# Altium schematic symbol library inductors.SCHLIB: 80 symbols
Pins are listed as number, name and electrical type; pins without a type are passive.

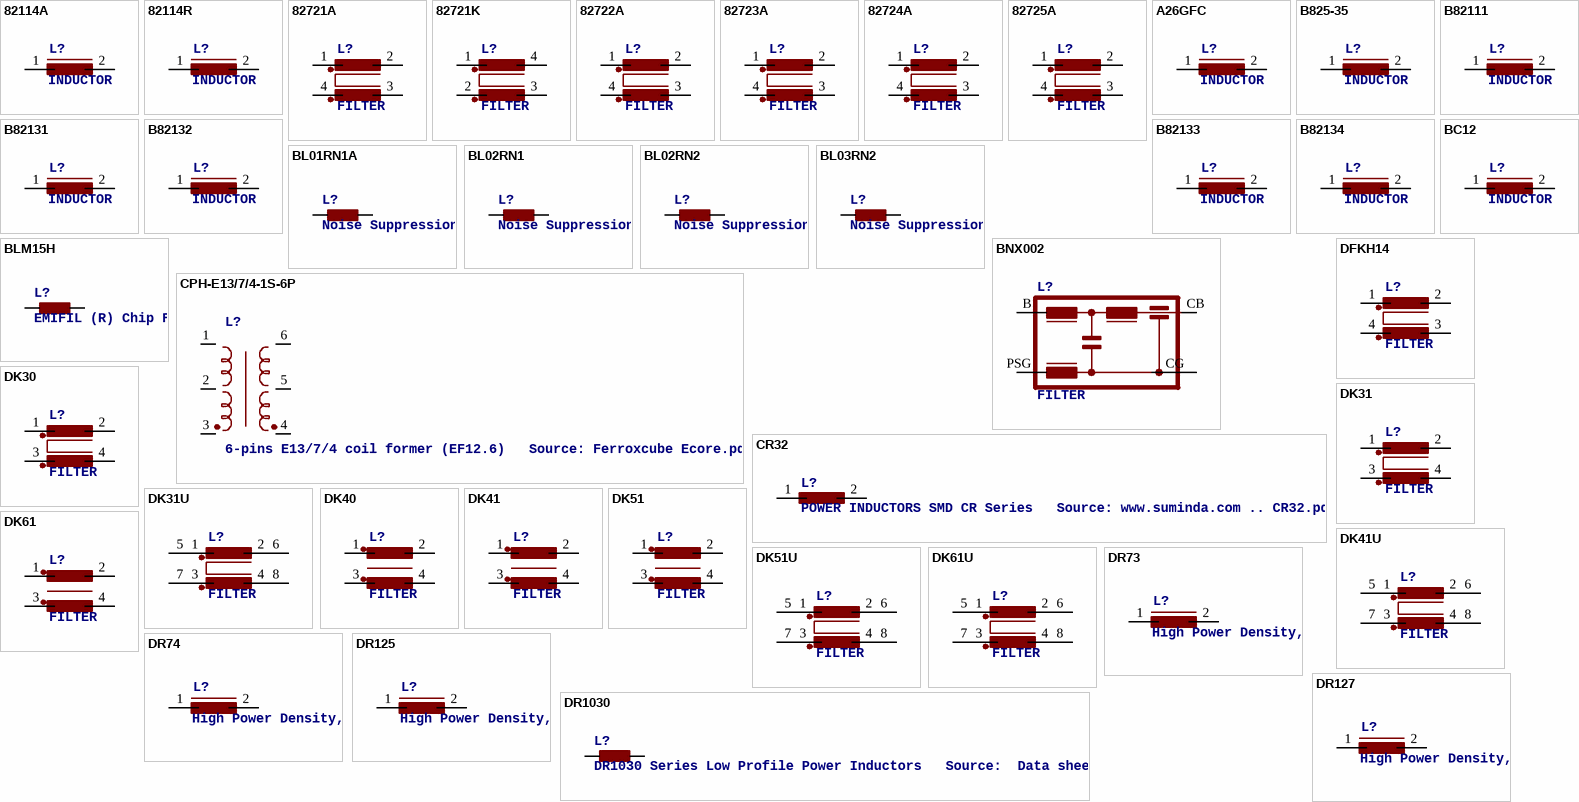
[diagram p0: symbols 82114A to DR1030]

## 82114A
designator L?, comment INDUCTOR
footprint 82114A
pins: 1, 2

## 82114R
designator L?, comment INDUCTOR
footprint 82114R
pins: 1, 2

## 82721A
designator L?, comment FILTER
footprint 82721A
pins: 1, 2, 3 4, 4 3

## 82721K
designator L?, comment FILTER
footprint 82721K
pins: 1, 2 3, 3 4, 4 2

## 82722A
designator L?, comment FILTER
footprint 82722A
pins: 1, 2, 3 4, 4 3

## 82723A
designator L?, comment FILTER
footprint 82723A
pins: 1, 2, 3 4, 4 3

## 82724A
designator L?, comment FILTER
footprint 82724A
pins: 1, 2, 3 4, 4 3

## 82725A
designator L?, comment FILTER
footprint 82725A
pins: 1, 2, 3 4, 4 3

## A26GFC
designator L?, comment INDUCTOR
footprint A26GFC
pins: 1, 2

## B825-35
designator L?, comment INDUCTOR
footprint B825-35
pins: 1, 2

## B82111
designator L?, comment INDUCTOR
footprint SUKW1-30
pins: 1, 2

## B82131
designator L?, comment INDUCTOR
footprint SUKW1-17
pins: 1, 2

## B82132
designator L?, comment INDUCTOR
footprint SUKW2-22
pins: 1, 2

## B82133
designator L?, comment INDUCTOR
footprint SUKW3-27
pins: 1, 2

## B82134
designator L?, comment INDUCTOR
footprint SUKW4-32
pins: 1, 2

## BC12
designator L?, comment INDUCTOR
footprint BC12
pins: 1, 2

## BL01RN1A
designator L?, comment Noise Suppression Products/EMI Suppression Filters, Lead EMIFIL(R) Inductor Type   Source: http://www.murata.com .. BL01RN1_DS.pdf
footprint BL01RN1A
pins: 1, 2

## BL02RN1
designator L?, comment Noise Suppression Products/EMI Suppression Filters, Lead EMIFIL(R) Inductor Type   Source: http://www.murata.com .. BL01RN1_DS.pdf
footprint BL02RN1
pins: 1, 2

## BL02RN2
designator L?, comment Noise Suppression Products/EMI Suppression Filters, Lead EMIFIL(R) Inductor Type   Source: http://www.murata.com .. BL01RN1_DS.pdf
footprint BL02RN2
pins: 1, 2

## BL03RN2
designator L?, comment Noise Suppression Products/EMI Suppression Filters, Lead EMIFIL(R) Inductor Type   Source: http://www.murata.com .. BL01RN1_DS.pdf
footprint BL03RN2
pins: 1, 2

## BLM15H
designator L?, comment EMIFIL (R) Chip Ferrite Bead for GHz Noise   Source: http://www.murata.com/ Ferrite Bead BLM15H.pdf
footprint 0402
pins: 1, 2

## BNX002
designator L?, comment FILTER
footprint BNX002
pins: B, CB, CG, PSG

## CPH-E13/7/4-1S-6P
designator L?, comment 6-pins E13/7/4 coil former (EF12.6)   Source: Ferroxcube Ecore.pdf
footprint CPH-E13/7/4-1S-6P
pins: 1, 2, 3, 4, 5, 6

## CR32
designator L?, comment POWER INDUCTORS SMD CR Series   Source: www.suminda.com .. CR32.pdf
footprint CR32
pins: 1, 2

## DFKH14
designator L?, comment FILTER
footprint DFKH14
pins: 1, 2, 3 4, 4 3

## DK30
designator L?, comment FILTER
footprint DK30
pins: 1, 2, 3, 4

## DK31
designator L?, comment FILTER
footprint DK31
pins: 1, 2, 3, 4

## DK31U
designator L?, comment FILTER
footprint DK31
pins: 1, 2, 3, 4, 5, 6, 7, 8

## DK40
designator L?, comment FILTER
footprint DK40
pins: 1 W1A, 2 W1E, 3 W2A, 4 W2E

## DK41
designator L?, comment FILTER
footprint DK41
pins: 1 W1A, 2 W1E, 3 W2A, 4 W2E

## DK41U
designator L?, comment FILTER
footprint DK41
pins: 1, 2, 3, 4, 5, 6, 7, 8

## DK51
designator L?, comment FILTER
footprint DK51
pins: 1 W1A, 2 W1E, 3 W2A, 4 W2E

## DK51U
designator L?, comment FILTER
footprint DK51
pins: 1, 2, 3, 4, 5, 6, 7, 8

## DK61
designator L?, comment FILTER
footprint DK61
pins: 1 W1A, 2 W1E, 3 W2A, 4 W2E

## DK61U
designator L?, comment FILTER
footprint DK61
pins: 1, 2, 3, 4, 5, 6, 7, 8

## DR73
designator L?, comment High Power Density, High Efficiency, Shielded Inductors   Source: coiltronics_dr_series.pdf
footprint DR73
pins: 1, 2

## DR74
designator L?, comment High Power Density, High Efficiency, Shielded Inductors   Source: coiltronics_dr_series.pdf
footprint DR74
pins: 1, 2

## DR125
designator L?, comment High Power Density, High Efficiency, Shielded Inductors   Source: coiltronics_dr_series.pdf
footprint DR125
pins: 1, 2

## DR127
designator L?, comment High Power Density, High Efficiency, Shielded Inductors   Source: coiltronics_dr_series.pdf
footprint DR127
pins: 1, 2

## DR1030
designator L?, comment DR1030 Series Low Profile Power Inductors   Source:  Data sheet
footprint DR1030
pins: 1, 2

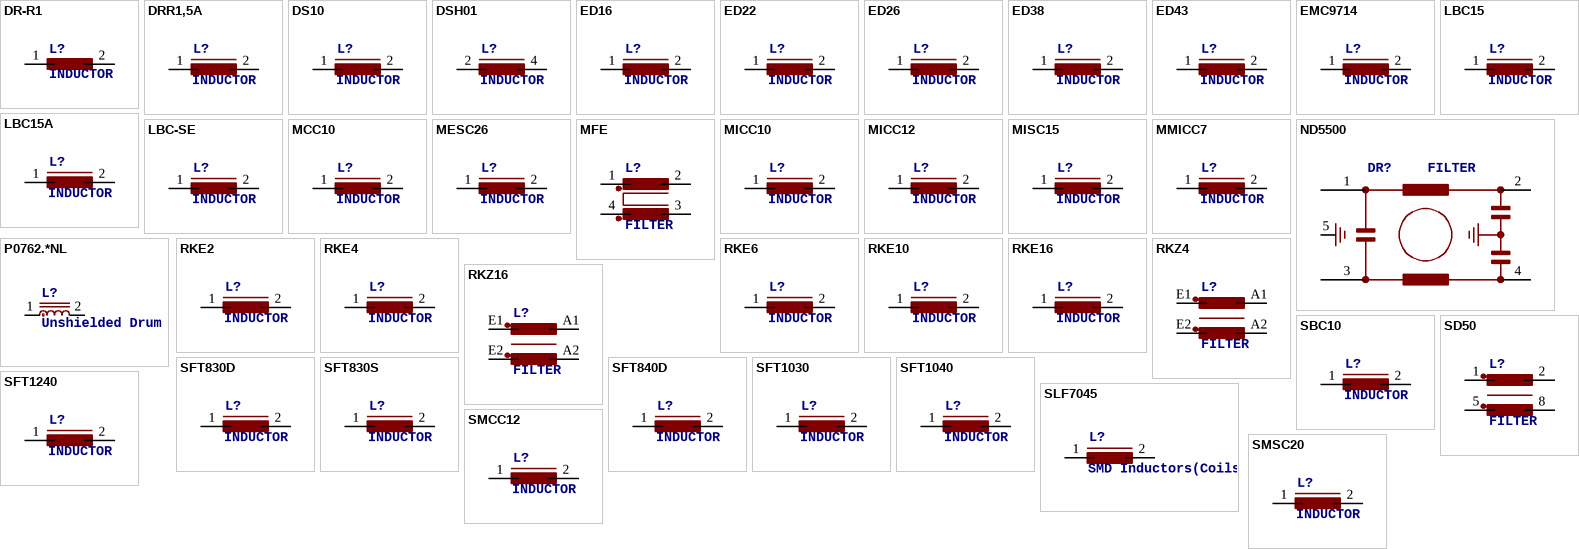
[diagram p1: symbols DR-R1 to SMSC20]

## DR-R1
designator L?, comment INDUCTOR
footprint DR-R1
pins: 1, 2

## DRR1,5A
designator L?, comment INDUCTOR
footprint DR1,5A
pins: 1, 2

## DS10
designator L?, comment INDUCTOR
footprint DS10
pins: 1, 2

## DSH01
designator L?, comment INDUCTOR
footprint DSH01
pins: 2 1, 4 2

## ED16
designator L?, comment INDUCTOR
footprint ED16
pins: 1, 2

## ED22
designator L?, comment INDUCTOR
footprint ED22
pins: 1, 2

## ED26
designator L?, comment INDUCTOR
footprint ED26
pins: 1, 2

## ED38
designator L?, comment INDUCTOR
footprint ED38
pins: 1, 2

## ED43
designator L?, comment INDUCTOR
footprint ED43
pins: 1, 2

## EMC9714
designator L?, comment INDUCTOR
footprint EMC9714
pins: 1, 2

## LBC15
designator L?, comment INDUCTOR
footprint LBC15
pins: 1, 2

## LBC15A
designator L?, comment INDUCTOR
footprint LBC15A
pins: 1, 2

## LBC-SE
designator L?, comment INDUCTOR
footprint LBC-SE
pins: 1, 2

## MCC10
designator L?, comment INDUCTOR
footprint MCC10
pins: 1, 2

## MESC26
designator L?, comment INDUCTOR
footprint MESC26
pins: 1, 2

## MFE
designator L?, comment FILTER
footprint MFE
pins: 1, 2, 3 4, 4 3

## MICC10
designator L?, comment INDUCTOR
footprint MICC10
pins: 1, 2

## MICC12
designator L?, comment INDUCTOR
footprint MICC12
pins: 1, 2

## MISC15
designator L?, comment INDUCTOR
footprint MISC15
pins: 1, 2

## MMICC7
designator L?, comment INDUCTOR
footprint MMICC7
pins: 1, 2

## ND5500
designator DR?, comment FILTER
footprint ND5500
pins: 1, 2, 3, 4, 5

## P0762.*NL
designator L?, comment Unshielded Drum Core P0762NL Series   Source> http://ww2.pulseeng.com/products/datasheets/SPM2007.pdf
footprint P0762NL
pins: 1, 2

## RKE2
designator L?, comment INDUCTOR
footprint RKE2
pins: 1, 2

## RKE4
designator L?, comment INDUCTOR
footprint RKE4
pins: 1, 2

## RKE6
designator L?, comment INDUCTOR
footprint RKE6
pins: 1, 2

## RKE10
designator L?, comment INDUCTOR
footprint RKE10
pins: 1, 2

## RKE16
designator L?, comment INDUCTOR
footprint RKE16
pins: 1, 2

## RKZ4
designator L?, comment FILTER
footprint RKZ4
pins: A1 W1E, A2 W2E, E1 W1A, E2 W2A

## RKZ16
designator L?, comment FILTER
footprint RKZ16
pins: A1 W1E, A2 W2E, E1 W1A, E2 W2A

## SBC10
designator L?, comment INDUCTOR
footprint SBC10
pins: 1, 2

## SD50
designator L?, comment FILTER
footprint SD50
pins: 1 W1A, 2 W1E, 5 W2A, 8 W2E

## SFT830D
designator L?, comment INDUCTOR
footprint SFT830D
pins: 1, 2

## SFT830S
designator L?, comment INDUCTOR
footprint SFT830S
pins: 1, 2

## SFT840D
designator L?, comment INDUCTOR
footprint SFT840D
pins: 1, 2

## SFT1030
designator L?, comment INDUCTOR
footprint SFT1030
pins: 1, 2

## SFT1040
designator L?, comment INDUCTOR
footprint SFT1040
pins: 1, 2

## SFT1240
designator L?, comment INDUCTOR
footprint SFT1240
pins: 1, 2

## SLF7045
designator L?, comment SMD Inductors(Coils) For Power Line (Wound, Magnetic Shielded)   Source: TDK, e531_slf7045.pdf
footprint SLF7045
pins: 1, 2

## SMCC12
designator L?, comment INDUCTOR
footprint SMCC12
pins: 1, 2

## SMSC20
designator L?, comment INDUCTOR
footprint SMSC20
pins: 1, 2